# EAGLE library part TPS61220 (library gecko)
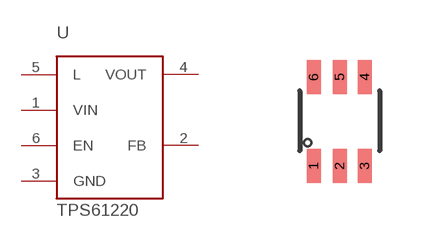
[diagram p2: symbol with the pads of SC70; footprint SC70]

Designator prefix U

## TPS61220  [SC70]
1  VIN  in
2  FB  in
3  GND  pwr
4  VOUT  out
5  L
6  EN  in

## Footprint SC70 (pad centres in mm)
smd 0.35 x 0.85: 1 -0.65,-1.125; 2 0,-1.125; 3 0.625,-1.125; 4 0.625,1.1; 5 0,1.1; 6 -0.65,1.1